# EAGLE library part LT1374 (library Stofer)
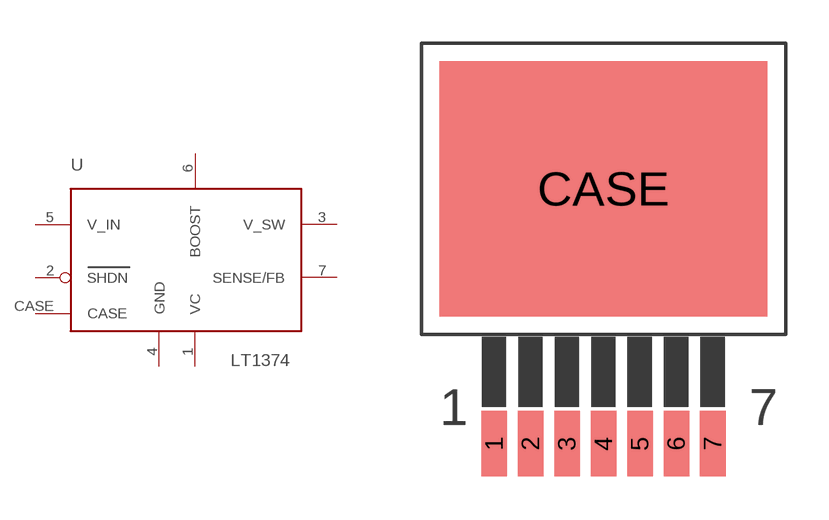
[diagram p7: symbol with the pads of DD_PACK_7; footprint DD_PACK_7]

Designator prefix -

## LT1374  [DD_PACK_7]
1  VC
2  SHDN
3  V_SW  pwr
4  GND  pwr
5  V_IN  pwr
6  BOOST
7  SENSE/FB
CASE  CASE

## Footprint DD_PACK_7 (pad centres in mm)
smd 0.889 x 2.286: 1 -3.81,-6.35; 2 -2.54,-6.35; 3 -1.27,-6.35; 4 0,-6.35; 5 1.27,-6.35; 6 2.54,-6.35; 7 3.81,-6.35
smd 11.43 x 8.89: CASE 0,2.54